# EAGLE library part LTC5507 (library SMORSE_Chao)
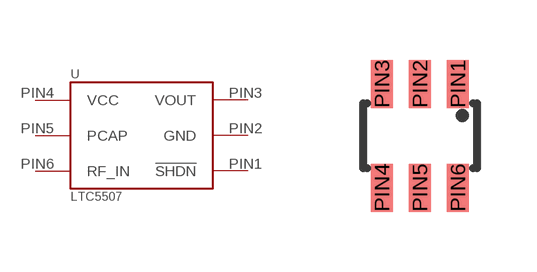
[diagram p3: symbol with the pads of TSOT-23-6/SOT-23-6; footprint TSOT-23-6/SOT-23-6]

Designator prefix -

## LTC5507  [TSOT-23-6/SOT-23-6]
PIN1  !SHDN!  in
PIN2  GND  pwr
PIN3  VOUT  out
PIN4  VCC  pwr
PIN5  PCAP  pas
PIN6  RF_IN  in

## Footprint TSOT-23-6/SOT-23-6 (pad centres in mm)
smd 0.55 x 1.2: PIN1 0.95,1.3; PIN2 0,1.3; PIN3 -0.95,1.3; PIN4 -0.95,-1.3; PIN5 0,-1.3; PIN6 0.95,-1.3